# Altium footprint library InterfaceConnectors.PcbLib: 12 footprints
Each footprint in its own frame and in the unit in brackets; x right, y up, seen from the top. Pads: shape width x height; smd on the part's side, far side on the other; paste and mask are expansions set on the pad; w line width, h text height; cw(c..) or ccw(c..) is an arc to the next point about the centre after c.
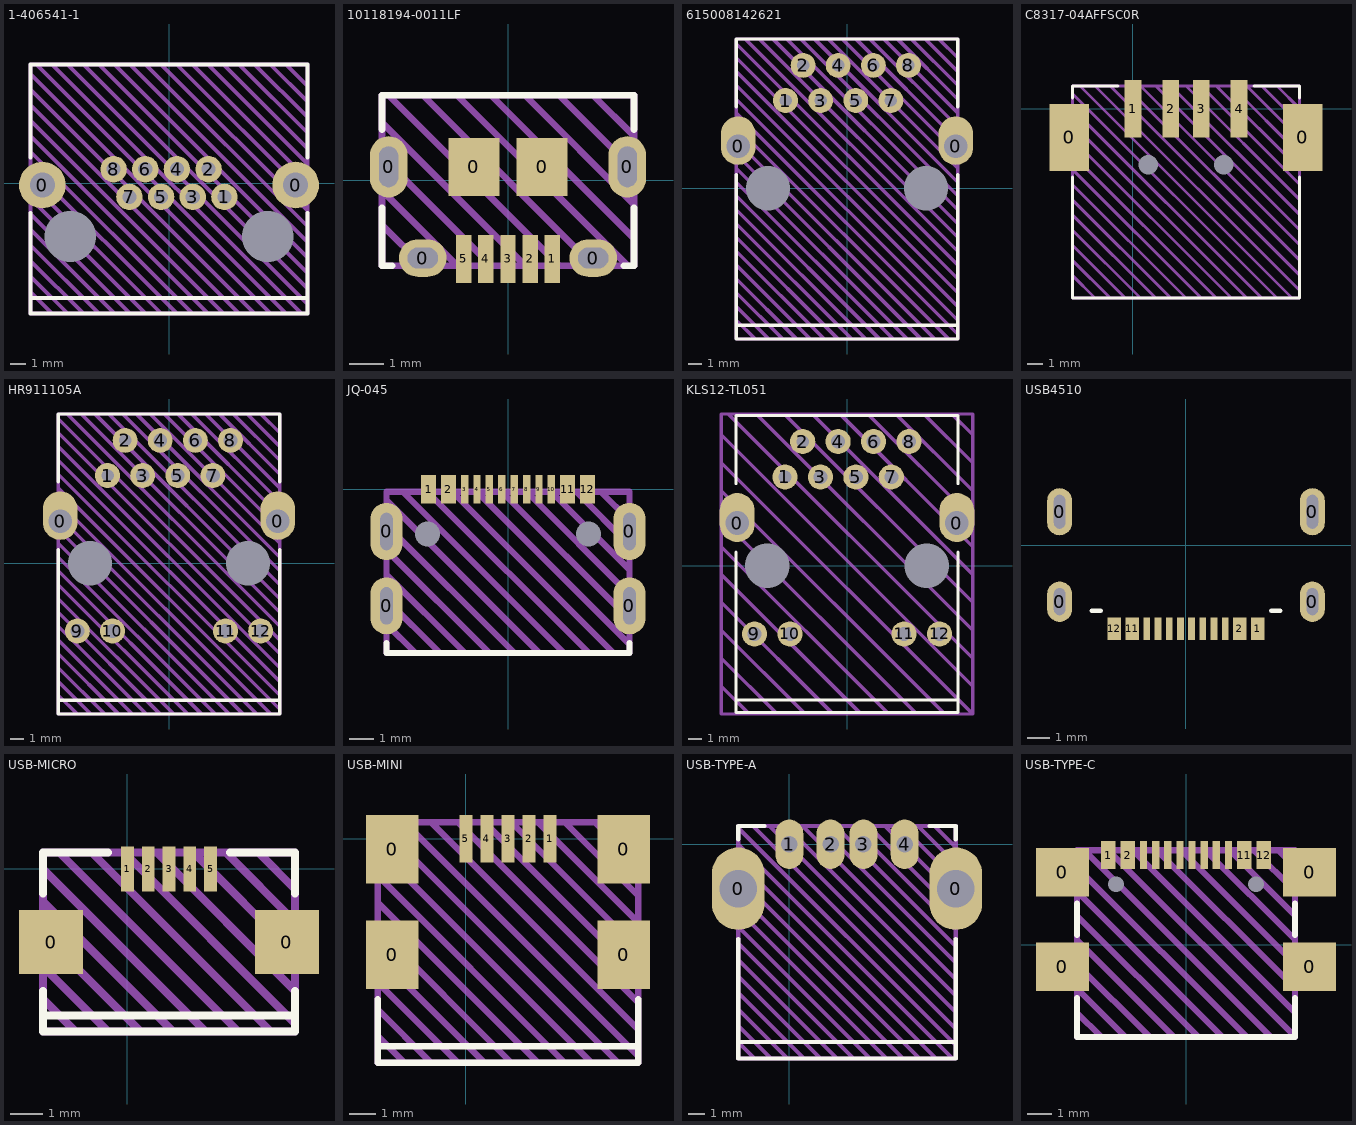
[diagram p0: the footprints below, top view; thin cyan lines are the x and y axes]

## 1-406541-1 [mm]
pads (12):
  round 3 hole 1.6: 0(-8.128,-0.127) 0(8.128,-0.127)
  round 1.7 hole 0.9: 1(3.556,-0.889) 2(2.54,0.889) 3(1.524,-0.889) 4(0.508,0.889) 5(-0.508,-0.889) 6(-1.524,0.889) 7(-2.54,-0.889) 8(-3.556,0.889)
  round 0 hole 3.3 unplated: ""(-6.35,-3.429) ""(6.35,-3.429)
Top Overlay:
  lines w0.254: -8.89,-7.366 8.89,-7.366 ; -8.89,-1.905 -8.89,-8.382 8.89,-8.382 8.89,-1.905 ; -8.89,1.651 -8.89,7.62 8.89,7.62 8.89,1.651
Top Draw:
  lines w0.254: -8.89,-6.991 -7.499,-8.382 ; -8.89,-5.991 -6.499,-8.382 ; -8.89,-4.991 -5.499,-8.382 ; -8.89,-3.991 -4.499,-8.382 ; -8.89,-2.991 -3.499,-8.382 ; -8.89,-1.991 -2.499,-8.382 ; -8.89,-0.991 -1.499,-8.382 ; -8.89,0.009 -0.499,-8.382 ; -8.89,1.009 0.501,-8.382 ; -8.89,2.009 1.501,-8.382 ; -8.89,3.009 2.501,-8.382 ; -8.89,4.009 3.501,-8.382 ; -8.89,5.009 4.501,-8.382 ; -8.89,6.009 5.501,-8.382 ; -8.89,7.009 6.501,-8.382 ; -8.501,7.62 7.501,-8.382 ; -7.501,7.62 8.501,-8.382 ; -6.501,7.62 8.89,-7.771 ; -5.501,7.62 8.89,-6.771 ; -4.501,7.62 8.89,-5.771 ; -3.501,7.62 8.89,-4.771 ; -2.501,7.62 8.89,-3.771 ; -1.501,7.62 8.89,-2.771 ; -0.501,7.62 8.89,-1.771 ; 0.499,7.62 8.89,-0.771 ; 1.499,7.62 8.89,0.229 ; 2.499,7.62 8.89,1.229 ; 3.499,7.62 8.89,2.229 ; 4.499,7.62 8.89,3.229 ; 5.499,7.62 8.89,4.229 ; 6.499,7.62 8.89,5.229 ; 7.499,7.62 8.89,6.229 ; -8.89,-8.382 -8.89,7.62 8.89,7.62 8.89,-8.382 -8.89,-8.382
3D body "TE 1-406541-1.step": height 14.23, standoff -3.8, extent -8.883,-8.43 8.883,7.62

## 10118194-0011LF [mm]
pads (11):
  oval 1.1x1.8 hole 0.559 slot 1.194 at 90 deg paste-2539.97 mask+0: 0(-3.5,0.4) 0(3.5,0.4)
  oval 1.4x1.1 hole 0.61 slot 0.889 at 0 deg paste-2539.97 mask+0: 0(-2.5,-2.275) 0(2.5,-2.275)
  rect 1.5x1.7 smd paste-0.826 mask-0.826: 0(-1,0.4) 0(1,0.4)
  rect 0.45x1.4 smd paste+0 mask+0: 1(1.3,-2.3) 2(0.65,-2.3) 3(0,-2.3) 4(-0.65,-2.3) 5(-1.3,-2.3)
Top Overlay:
  lines w0.2: -3.7,-0.8 -3.7,-2.5 -3.4,-2.5 ; -3.7,1.5 -3.7,2.5 3.7,2.5 3.7,1.5 ; 3.4,-2.5 3.7,-2.5 3.7,-0.8
Top Draw:
  lines w0.2: -3.7,-1.3 -2.5,-2.5 ; -3.7,-0.3 -1.5,-2.5 ; -3.7,0.7 -0.5,-2.5 ; -3.7,1.7 0.5,-2.5 ; -3.5,2.5 1.5,-2.5 ; -2.5,2.5 2.5,-2.5 ; -1.5,2.5 3.5,-2.5 ; -0.5,2.5 3.7,-1.7 ; 0.5,2.5 3.7,-0.7 ; 1.5,2.5 3.7,0.3 ; 2.5,2.5 3.7,1.3 ; -3.7,-2.5 3.7,-2.5 3.7,2.5 -3.7,2.5 -3.7,-2.5
Top Info:
  text "'.Comment'" at -4.249,-4.383 h1
3D body "10118194-xx1xLF.step": height 2.69, standoff -0.52, extent -3.7,-2.543 3.7,2.507

## 615008142621 [mm]
pads (12):
  oval 2.5x3.5 hole 1.7 copper offset 0,0.4: 0(-7.874,3.048) 0(7.874,3.048)
  round 1.8 hole 0.9: 1(-4.445,6.35) 2(-3.175,8.89) 3(-1.905,6.35) 4(-0.635,8.89) 5(0.635,6.35) 6(1.905,8.89) 7(3.175,6.35) 8(4.445,8.89)
  round 0 hole 3.2 unplated: ""(-5.715,0) ""(5.715,0)
Top Overlay:
  lines w0.25: -8,-9.9 8,-9.9 ; -8,1 -8,-10.9 8,-10.9 8,1 ; -8,5.9 -8,10.8 8,10.8 8,5.9
Top Draw:
  lines w0.25: -8,-9.55 -6.65,-10.9 ; -8,-8.55 -5.65,-10.9 ; -8,-7.55 -4.65,-10.9 ; -8,-6.55 -3.65,-10.9 ; -8,-5.55 -2.65,-10.9 ; -8,-4.55 -1.65,-10.9 ; -8,-3.55 -0.65,-10.9 ; -8,-2.55 0.35,-10.9 ; -8,-1.55 1.35,-10.9 ; -8,-0.55 2.35,-10.9 ; -8,0.45 3.35,-10.9 ; -8,1.45 4.35,-10.9 ; -8,2.45 5.35,-10.9 ; -8,3.45 6.35,-10.9 ; -8,4.45 7.35,-10.9 ; -8,5.45 8,-10.55 ; -8,6.45 8,-9.55 ; -8,7.45 8,-8.55 ; -8,8.45 8,-7.55 ; -8,9.45 8,-6.55 ; -8,10.45 8,-5.55 ; -7.35,10.8 8,-4.55 ; -6.35,10.8 8,-3.55 ; -5.35,10.8 8,-2.55 ; -4.35,10.8 8,-1.55 ; -3.35,10.8 8,-0.55 ; -2.35,10.8 8,0.45 ; -1.35,10.8 8,1.45 ; -0.35,10.8 8,2.45 ; 0.65,10.8 8,3.45 ; 1.65,10.8 8,4.45 ; 2.65,10.8 8,5.45 ; 3.65,10.8 8,6.45 ; 4.65,10.8 8,7.45 ; 5.65,10.8 8,8.45 ; 6.65,10.8 8,9.45 ; -8,-10.9 -8,10.8 8,10.8 8,-10.9 -8,-10.9
Top Info:
  text "'.Comment'" at -6.373,-13.075 h1.5
3D body "HANRUN HR911105A.step": height 13.95, standoff -2, extent -8,-10.92 8,10.68

## C8317-04AFFSC0R [mm]
pads (8):
  rect 2.6x4.4 smd: 0(-4.2,-1.9) 0(11.2,-1.9)
  rect 1.1x3.8 smd: 1(0,0) 2(2.5,0) 3(4.5,0) 4(7,0)
  round 0 hole 1.3: ""(1,-3.7) ""(6,-3.7)
Top Overlay:
  lines w0.2: -4,-4.5 -4,-12.5 11,-12.5 11,-4.5 ; -4,0.7 -4,1.5 -1,1.5 ; 8,1.5 11,1.5 11,0.7
Top Draw:
  lines w0.2: -4,-11 -2.5,-12.5 ; -4,-10 -1.5,-12.5 ; -4,-9 -0.5,-12.5 ; -4,-8 0.5,-12.5 ; -4,-7 1.5,-12.5 ; -4,-6 2.5,-12.5 ; -4,-5 3.5,-12.5 ; -4,-4 4.5,-12.5 ; -4,-3 5.5,-12.5 ; -4,-2 6.5,-12.5 ; -4,-1 7.5,-12.5 ; -4,0 8.5,-12.5 ; -4,1 9.5,-12.5 ; -3.5,1.5 10.5,-12.5 ; -2.5,1.5 11,-12 ; -1.5,1.5 11,-11 ; -0.5,1.5 11,-10 ; 0.5,1.5 11,-9 ; 1.5,1.5 11,-8 ; 2.5,1.5 11,-7 ; 3.5,1.5 11,-6 ; 4.5,1.5 11,-5 ; 5.5,1.5 11,-4 ; 6.5,1.5 11,-3 ; 7.5,1.5 11,-2 ; 8.5,1.5 11,-1 ; 9.5,1.5 11,0 ; -4,-12.5 -4,1.5 11,1.5 11,-12.5 -4,-12.5
Top Info:
  text "'.Comment'" at -2.873,-14.675 h1.5

## HR911105A [mm]
pads (16):
  oval 2.5x3.5 hole 1.7 copper offset 0,0.4: 0(-7.874,3.048) 0(7.874,3.048)
  round 1.8 hole 0.9: 1(-4.445,6.35) 2(-3.175,8.89)
  round 1.8 hole 1: 3(-1.905,6.35) 4(-0.635,8.89) 5(0.635,6.35) 6(1.905,8.89) 7(3.175,6.35) 8(4.445,8.89) 9(-6.629,-4.9) 10(-4.089,-4.9) 11(4.089,-4.9) 12(6.629,-4.9)
  round 0 hole 3.2 unplated: ""(-5.715,0) ""(5.715,0)
Top Overlay:
  lines w0.25: -8,-9.9 8,-9.9 ; -8,1 -8,-10.9 8,-10.9 8,1 ; -8,5.9 -8,10.8 8,10.8 8,5.9
Top Draw:
  lines w0.25: -8,-9.55 -6.65,-10.9 ; -8,-8.55 -5.65,-10.9 ; -8,-7.55 -4.65,-10.9 ; -8,-6.55 -3.65,-10.9 ; -8,-5.55 -2.65,-10.9 ; -8,-4.55 -1.65,-10.9 ; -8,-3.55 -0.65,-10.9 ; -8,-2.55 0.35,-10.9 ; -8,-1.55 1.35,-10.9 ; -8,-0.55 2.35,-10.9 ; -8,0.45 3.35,-10.9 ; -8,1.45 4.35,-10.9 ; -8,2.45 5.35,-10.9 ; -8,3.45 6.35,-10.9 ; -8,4.45 7.35,-10.9 ; -8,5.45 8,-10.55 ; -8,6.45 8,-9.55 ; -8,7.45 8,-8.55 ; -8,8.45 8,-7.55 ; -8,9.45 8,-6.55 ; -8,10.45 8,-5.55 ; -7.35,10.8 8,-4.55 ; -6.35,10.8 8,-3.55 ; -5.35,10.8 8,-2.55 ; -4.35,10.8 8,-1.55 ; -3.35,10.8 8,-0.55 ; -2.35,10.8 8,0.45 ; -1.35,10.8 8,1.45 ; -0.35,10.8 8,2.45 ; 0.65,10.8 8,3.45 ; 1.65,10.8 8,4.45 ; 2.65,10.8 8,5.45 ; 3.65,10.8 8,6.45 ; 4.65,10.8 8,7.45 ; 5.65,10.8 8,8.45 ; 6.65,10.8 8,9.45 ; -8,-10.9 -8,10.8 8,10.8 8,-10.9 -8,-10.9
Top Info:
  text "'.Comment'" at -6.373,-13.075 h1.5
3D body "HANRUN HR911105A.step": height 13.95, standoff -2, extent -8,-10.92 8,10.68

## JQ-045 [mm]
pads (18):
  oval 1.3x2.3 hole 0.5 slot 1.5 at 90 deg mask+0.07: 0(-4.9,-4.7) 0(-4.9,-1.7) 0(4.9,-4.7) 0(4.9,-1.7)
  rect 0.6x1.15 smd mask+0.07: 1(-3.2,0) 2(-2.4,0) 11(2.4,0) 12(3.2,0)
  rect 0.3x1.15 smd mask+0.07: 3(-1.75,0) 4(-1.25,0) 5(-0.75,0) 6(-0.25,0) 7(0.25,0) 8(0.75,0) 9(1.25,0) 10(1.75,0)
  round 0 hole 1 unplated: ""(-3.25,-1.8) ""(3.25,-1.8)
Top Overlay:
  lines w0.25: -4.9,-6.2 -4.9,-6.6 4.9,-6.6 4.9,-6.2
Top Draw:
  lines w0.25: -4.9,-5.45 -3.75,-6.6 ; -4.9,-4.45 -2.75,-6.6 ; -4.9,-3.45 -1.75,-6.6 ; -4.9,-2.45 -0.75,-6.6 ; -4.9,-1.45 0.25,-6.6 ; -4.9,-0.45 1.25,-6.6 ; -4.25,-0.1 2.25,-6.6 ; -3.25,-0.1 3.25,-6.6 ; -2.25,-0.1 4.25,-6.6 ; -1.25,-0.1 4.9,-6.25 ; -0.25,-0.1 4.9,-5.25 ; 0.75,-0.1 4.9,-4.25 ; 1.75,-0.1 4.9,-3.25 ; 2.75,-0.1 4.9,-2.25 ; 3.75,-0.1 4.9,-1.25 ; -4.9,-6.6 4.9,-6.6 4.9,-0.1 -4.9,-0.1 -4.9,-6.6
Top Info:
  text "'.Comment'" at -4.249,-8.083 h1

## KLS12-TL051 [mm]
pads (16):
  oval 2.5x3.5 hole 1.7 copper offset 0,0.4: 0(-7.874,3.048) 0(7.874,3.048)
  round 1.8 hole 0.9: 1(-4.445,6.35) 2(-3.175,8.89)
  round 1.8 hole 1: 3(-1.905,6.35) 4(-0.635,8.89) 5(0.635,6.35) 6(1.905,8.89) 7(3.175,6.35) 8(4.445,8.89) 9(-6.629,-4.9) 10(-4.089,-4.9) 11(4.089,-4.9) 12(6.629,-4.9)
  round 0 hole 3.2 unplated: ""(-5.715,0) ""(5.715,0)
Top Overlay:
  lines w0.2: -7.95,-9.635 7.95,-9.635 ; -7.95,0.965 -7.95,-10.535 7.95,-10.535 7.95,0.965 ; -7.95,5.865 -7.95,10.765 7.95,10.765 7.95,5.865
Top Draw:
  lines w0.25: -9,-8.635 -7,-10.635 ; -9,-6.635 -5,-10.635 ; -9,-4.635 -3,-10.635 ; -9,-2.635 -1,-10.635 ; -9,-0.635 1,-10.635 ; -9,1.365 3,-10.635 ; -9,3.365 5,-10.635 ; -9,5.365 7,-10.635 ; -9,7.365 9,-10.635 ; -9,9.365 9,-8.635 ; -8.5,10.865 9,-6.635 ; -6.5,10.865 9,-4.635 ; -4.5,10.865 9,-2.635 ; -2.5,10.865 9,-0.635 ; -0.5,10.865 9,1.365 ; 1.5,10.865 9,3.365 ; 3.5,10.865 9,5.365 ; 5.5,10.865 9,7.365 ; 7.5,10.865 9,9.365 ; 9,-10.635 9,10.865 -9,10.865 -9,-10.635 9,-10.635
Top Info:
  text "'.Comment'" at -6.373,-12.94 h1.5
3D body "RJ45-LED.stp": height 13.89, standoff -0.2, extent -8.993,-10.25 8.993,10.502

## USB4510 [mm] "Mid Mount USB Type-C"
pads (16):
  oval 1.1x1.8 hole 0.5 slot 1.2 at 90 deg mask+0.07: 0(-5.625,-2.5) 0(5.625,-2.5)
  oval 1.1x2.1 hole 0.5 slot 1.5 at 90 deg mask+0.07: 0(-5.625,1.5) 0(5.625,1.5)
  rect 0.6x1 smd: 1(3.2,-3.7) 2(2.4,-3.7) 11(-2.4,-3.7) 12(-3.2,-3.7)
  rect 0.3x1 smd: 3(1.75,-3.7) 4(1.25,-3.7) 5(0.75,-3.7) 6(0.25,-3.7) 7(-0.25,-3.7) 8(-0.75,-3.7) 9(-1.25,-3.7) 10(-1.75,-3.7)
Top Overlay:
  lines w0.2: -4.2,-2.9 -3.8,-2.9 ; 3.8,-2.9 4.2,-2.9
3D body "USB4510-03-1-A.stp": height 1.58, standoff -1.61, extent -5.77,-3.6 5.77,3.6

## USB-MICRO [mm]
pads (7):
  rect 2x2 smd: 0(-2.383,-2.286) 0(4.983,-2.286)
  rect 0.4x1.4 smd: 1(0,0) 2(0.65,0) 3(1.3,0) 4(1.95,0) 5(2.6,0)
Top Overlay:
  lines w0.25: -2.637,-4.572 5.237,-4.572 ; -2.637,-3.81 -2.637,-5.08 5.237,-5.08 5.237,-3.81 ; -2.637,-0.762 -2.637,0.508 -0.605,0.508 ; 3.205,0.508 5.237,0.508 5.237,-0.762
Top Draw:
  lines w0.25: -2.637,-4.064 -1.621,-5.08 ; -2.637,-3.048 -0.605,-5.08 ; -2.637,-2.032 0.411,-5.08 ; -2.637,-1.016 1.427,-5.08 ; -2.637,0 2.443,-5.08 ; -2.129,0.508 3.459,-5.08 ; -1.113,0.508 4.475,-5.08 ; -0.097,0.508 5.237,-4.826 ; 0.919,0.508 5.237,-3.81 ; 2.062,0.508 5.237,-2.667 ; 3.078,0.508 5.237,-1.651 ; 4.094,0.508 5.237,-0.635 ; -2.637,-5.08 -2.637,0.508 5.237,0.508 5.237,-5.08 -2.637,-5.08
Top Info:
  text "'.Comment'" at -2.099,-6.309 h0.8
3D body "MicroUSB_SMT.STEP": height 2.72, standoff -0.5, extent -2.735,-5 5.335,0.564

## USB-MINI [mm]
pads (9):
  rect 2x2.6 smd: 0(-2.8,-4.4) 0(-2.8,-0.4) 0(6,-4.4) 0(6,-0.4)
  rect 0.5x1.8 smd: 1(3.2,0) 2(2.4,0) 3(1.6,0) 4(0.8,0) 5(0,0)
Top Overlay:
  lines w0.25: -3.353,-7.874 6.553,-7.874 ; -3.353,-6.096 -3.353,-8.509 6.553,-8.509 6.553,-6.096
Top Draw:
  lines w0.25: -3.353,-7.493 -2.337,-8.509 ; -3.353,-6.477 -1.321,-8.509 ; -3.353,-5.461 -0.305,-8.509 ; -3.353,-4.445 0.711,-8.509 ; -3.353,-3.429 1.727,-8.509 ; -3.353,-2.413 2.743,-8.509 ; -3.353,-1.397 3.759,-8.509 ; -3.353,-0.381 4.775,-8.509 ; -2.337,0.635 6.553,-8.255 ; -1.321,0.635 6.553,-7.239 ; -0.305,0.635 6.553,-6.223 ; 0.711,0.635 6.553,-5.207 ; 1.727,0.635 6.553,-4.191 ; 2.743,0.635 6.553,-3.175 ; 3.759,0.635 6.553,-2.159 ; 4.902,0.635 6.553,-1.016 ; 5.791,-8.509 -3.353,0.635 ; 5.918,0.635 6.553,0 ; -3.353,0.635 6.553,0.635 6.553,-8.509 -3.353,-8.509 -3.353,0.635
Top Info:
  text "'.Comment'" at -2.649,-9.981 h1
3D body "MiniUSB_SMT.STEP": height 3.99, standoff -0.01, extent -3.35,-8.45 6.55,0.625

## USB-TYPE-A [mm] "DS1095"
pads (6):
  oval 3.2x5 hole 2.3: 0(-3.1,-2.7) 0(10.1,-2.7)
  oval 1.7x3 hole 1: 1(0,0) 2(2.5,0) 3(4.5,0) 4(7,0)
Top Overlay:
  lines w0.25: -3.1,-13 10.1,-13 ; -3.1,-12 10.1,-12 ; -3.1,1.1 -1.5,1.1 ; 8.5,1.1 10.1,1.1
  lines w0.254: -3.1,-13 -3.1,-5.75 ; -3.1,0.3 -3.1,1.1 ; 10.1,-13 10.1,-5.75 ; 10.1,0.3 10.1,1.1
Top Draw:
  lines w0.25: -3.1,-12 -2.1,-13 ; -3.1,-11 -1.1,-13 ; -3.1,-10 -0.1,-13 ; -3.1,-9 0.9,-13 ; -3.1,-8 1.9,-13 ; -3.1,-7 2.9,-13 ; -3.1,-6 3.9,-13 ; -3.1,-5 4.9,-13 ; -3.1,-4 5.9,-13 ; -3.1,-3 6.9,-13 ; -3.1,-2 7.9,-13 ; -3.1,-1 8.9,-13 ; -3.1,0 9.9,-13 ; -3.1,1 10.1,-12.2 ; -2.2,1.1 10.1,-11.2 ; -1.2,1.1 10.1,-10.2 ; -0.2,1.1 10.1,-9.2 ; 0.8,1.1 10.1,-8.2 ; 1.8,1.1 10.1,-7.2 ; 2.8,1.1 10.1,-6.2 ; 3.8,1.1 10.1,-5.2 ; 4.8,1.1 10.1,-4.2 ; 5.8,1.1 10.1,-3.2 ; 6.8,1.1 10.1,-2.2 ; 7.8,1.1 10.1,-1.2 ; 8.8,1.1 10.1,-0.2 ; -3.1,-13 10.1,-13 10.1,1.1 -3.1,1.1 -3.1,-13
Top Info:
  text "'.Comment'" at -1.811,-14.929 h1.25
3D body "USB_TypeA.STEP": height 7.65, standoff -3.74, extent -4.35,-12.98 11.35,1.17

## USB-TYPE-C [mm]
pads (18):
  rect 2.18x2 smd: 0(-5.1,-0.9) 0(-5.1,3) 0(5.1,-0.9) 0(5.1,3)
  rect 0.6x1.15 smd: 1(-3.2,3.7) 2(-2.4,3.7) 11(2.4,3.7) 12(3.2,3.7)
  rect 0.3x1.15 smd: 3(-1.75,3.7) 4(-1.25,3.7) 5(-0.75,3.7) 6(-0.25,3.7) 7(0.25,3.7) 8(0.75,3.7) 9(1.25,3.7) 10(1.75,3.7)
  round 0 hole 0.65 unplated: ""(-2.89,2.5) ""(2.89,2.5)
Top Overlay:
  lines w0.25: -4.5,-2.2 -4.5,-3.8 4.5,-3.8 4.5,-2.2 ; -4.5,0.4 -4.5,1.7 ; 4.5,0.4 4.5,1.7
Top Draw:
  lines w0.25: -4.5,-2.8 -3.5,-3.8 ; -4.5,-1.8 -2.5,-3.8 ; -4.5,-0.8 -1.5,-3.8 ; -4.5,0.2 -0.5,-3.8 ; -4.5,1.2 0.5,-3.8 ; -4.5,2.2 1.5,-3.8 ; -4.5,3.2 2.5,-3.8 ; -4.2,3.9 3.5,-3.8 ; -3.2,3.9 4.5,-3.8 ; -2.2,3.9 4.5,-2.8 ; -1.2,3.9 4.5,-1.8 ; -0.2,3.9 4.5,-0.8 ; 0.8,3.9 4.5,0.2 ; 1.8,3.9 4.5,1.2 ; 2.8,3.9 4.5,2.2 ; 3.8,3.9 4.5,3.2 ; 4.5,-3.8 4.5,3.9 -4.5,3.9 -4.5,-3.8 4.5,-3.8
Top Info:
  text "'.Comment'" at -4.249,-5.383 h1
3D body "USB4110-GF-A (typeC) v2.step": height 3.26, standoff -0.63, extent -5.65,-3.85 5.65,3.85